# EAGLE library part ARDUINO_MKR_ZERO (library ARDUINO_MKR_ZERO)
ATSAMD21 Arduino MKR Zero with Headers SAM D ARM® Cortex®-M0+ MCU 32-Bit Embedded Evaluation Board
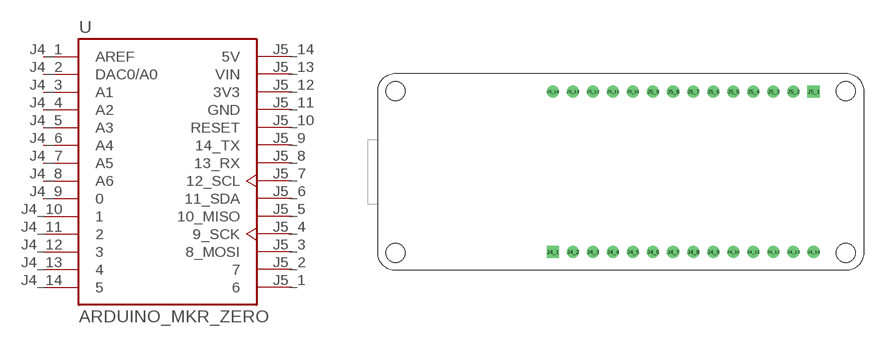
[diagram p0: symbol with the pads of MODULE_ARDUINO_MKR_ZERO; footprint MODULE_ARDUINO_MKR_ZERO]

Designator prefix U

## ARDUINO_MKR_ZERO (Availability: Unavailable; Description: ATSAMD21 Arduino MKR Zero with Headers SAM D ARM® Cortex®-M0+ MCU 32-Bit Embedded Evaluation Board; MF: Arduino; MP: ARDUINO MKR ZERO; Package: None; Price: None)  [MODULE_ARDUINO_MKR_ZERO]
J4_1  AREF
J4_2  DAC0/A0
J4_3  A1
J4_4  A2
J4_5  A3
J4_6  A4
J4_7  A5
J4_8  A6
J4_9  0
J4_10  1
J4_11  2
J4_12  3
J4_13  4
J4_14  5
J5_1  6
J5_2  7
J5_3  8_MOSI
J5_4  9_SCK
J5_5  10_MISO
J5_6  11_SDA
J5_7  12_SCL
J5_8  13_RX  in
J5_9  14_TX  out
J5_10  RESET
J5_11  GND  pwr
J5_12  3V3  pwr
J5_13  VIN  pwr
J5_14  5V  pwr

## Footprint MODULE_ARDUINO_MKR_ZERO (pad centres in mm)
drill 1.02 square: J4_1 -8.615,-10.16; J5_1 24.405,10.16
drill 1.02: J4_2 -6.075,-10.16; J4_3 -3.535,-10.16; J4_4 -0.995,-10.16; J4_5 1.545,-10.16; J4_6 4.085,-10.16; J4_7 6.625,-10.16; J4_8 9.165,-10.16; J4_9 11.705,-10.16; J4_10 14.245,-10.16; J4_11 16.785,-10.16; J4_12 19.325,-10.16; J4_13 21.865,-10.16; J4_14 24.405,-10.16; J5_2 21.865,10.16; J5_3 19.325,10.16; J5_4 16.785,10.16; J5_5 14.245,10.16; J5_6 11.705,10.16; J5_7 9.165,10.16; J5_8 6.625,10.16; J5_9 4.085,10.16; J5_10 1.545,10.16; J5_11 -0.995,10.16; J5_12 -3.535,10.16; J5_13 -6.075,10.16; J5_14 -8.615,10.16
hole 2.42 at -28.5,-10.25
hole 2.42 at -28.5,10.25
hole 2.42 at 28.5,10.25
hole 2.42 at 28.5,-10.25